# EAGLE library part 74*3245 (library 74xx-us)
TX/RX 8-BIT DUAL 3STATE 24TSSOP
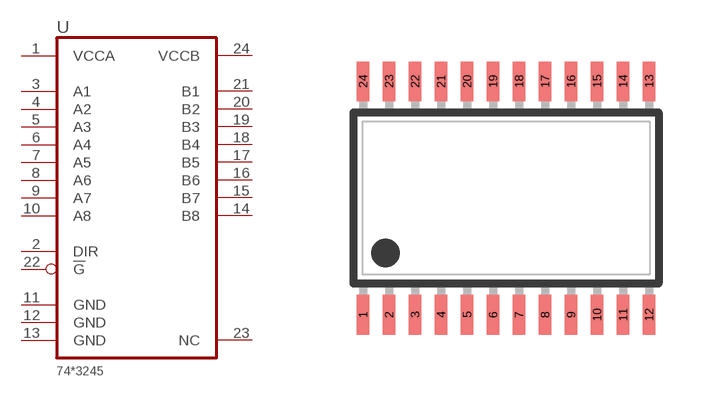
[diagram p327: symbol with the pads of TSSOP24; footprint TSSOP24]

Designator prefix U

## 743245, 74LVX3245  [TSSOP24]
1  VCCA
2  DIR  in
3  A1  in
4  A2  in
5  A3  in
6  A4  in
7  A5  in
8  A6  in
9  A7  in
10  A8  in
11  GND
12  GND
13  GND
14  B8  hiz
15  B7  hiz
16  B6  hiz
17  B5  hiz
18  B4  hiz
19  B3  hiz
20  B2  hiz
21  B1  hiz
22  !G!  in
23  NC
24  VCCB

## Footprint TSSOP24 (pad centres in mm)
Thin Shrink Small Outline Plastic 24
smd 0.305 x 0.991: 1 -3.575,-2.918; 2 -2.925,-2.918; 3 -2.275,-2.918; 4 -1.625,-2.918; 5 -0.975,-2.918; 6 -0.325,-2.918; 7 0.325,-2.918; 8 0.975,-2.918; 9 1.625,-2.918; 10 2.275,-2.918; 11 2.925,-2.918; 12 3.575,-2.918; 13 3.575,2.918; 14 2.925,2.918; 15 2.275,2.918; 16 1.625,2.918; 17 0.975,2.918; 18 0.325,2.918; 19 -0.325,2.918; 20 -0.975,2.918; 21 -1.625,2.918; 22 -2.275,2.918; 23 -2.925,2.918; 24 -3.575,2.918